# Altium footprint library IntegratedCircuites.PcbLib: 74 footprints (part 3 of 5)
Each footprint in its own frame and in the unit in brackets; x right, y up, seen from the top. Pads: shape width x height; smd on the part's side, far side on the other; paste and mask are expansions set on the pad; w line width, h text height; cw(c..) or ccw(c..) is an arc to the next point about the centre after c.
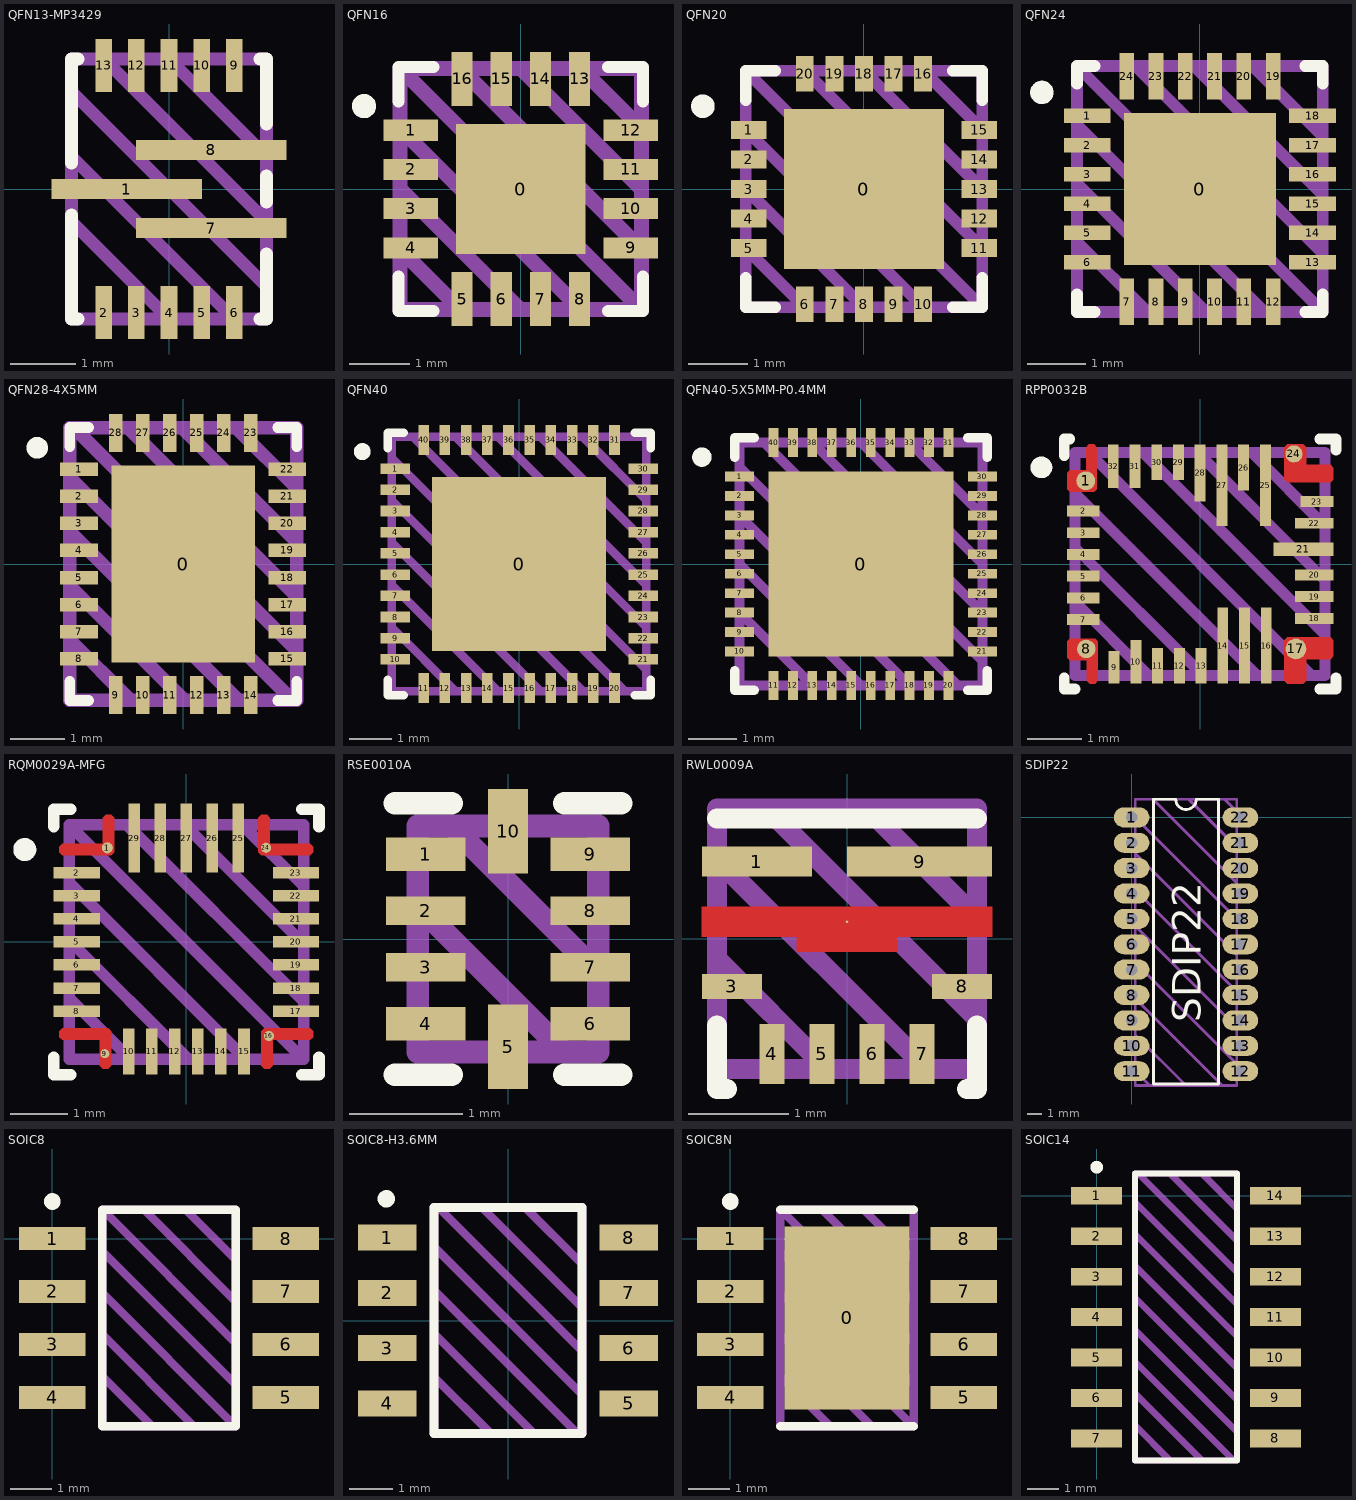
[diagram p2: the footprints below, top view; thin cyan lines are the x and y axes]

## QFN13-MP3429 [mil]
pads (13):
  rect 91x12 smd paste+0: 1(-25.59,0) 7(25.59,-23.62) 8(25.59,23.62)
  rect 10x32 smd paste+0: 2(-39.37,-74.8) 3(-19.68,-74.8) 4(0,-74.8) 5(19.68,-74.8) 6(39.37,-74.8) 9(39.37,74.8) 10(19.68,74.8) 11(0,74.8) 12(-19.68,74.8) 13(-39.37,74.8)
Top Overlay:
  lines w7.87: -59.06,-15.75 -59.06,-78.74 -55.1,-78.74 ; -59.06,15.75 -59.06,78.74 -55.1,78.74 ; 55.12,-78.74 59.06,-78.74 59.06,-39.37 ; 55.12,78.74 59.06,78.74 59.06,39.37 ; 59.06,-7.87 59.06,7.87
Top Draw:
  lines w7.87: -59.06,-19.69 0,-78.74 ; -59.06,19.68 39.37,-78.74 ; -59.06,59.06 59.06,-59.06 ; -39.37,78.74 59.06,-19.68 ; 0,78.74 59.06,19.69 ; -59.06,-78.74 -59.06,78.74 59.06,78.74 59.06,-78.74 -59.06,-78.74
Top Info:
  text "'.Comment'" at -83.63,-121.72 h19.68
3D body "MP3429GL.step": height 33.46, standoff 0, extent -59.06,-78.74 59.06,78.74

## QFN16 [mm]
height 0.8
pads (17):
  rect 2.15x2.15 smd: 0(0,0)
  rect 0.9x0.35 smd: 1(-1.825,0.975) 2(-1.825,0.325) 3(-1.825,-0.325) 4(-1.825,-0.975) 9(1.825,-0.975) 10(1.825,-0.325) 11(1.825,0.325) 12(1.825,0.975)
  rect 0.35x0.9 smd: 5(-0.975,-1.825) 6(-0.325,-1.825) 7(0.325,-1.825) 8(0.975,-1.825) 13(0.975,1.827) 14(0.325,1.827) 15(-0.325,1.827) 16(-0.975,1.827)
Top Overlay:
  circle w0.2: c-2.6,1.375 r0.1
  lines w0.2: -2.025,-1.45 -2.025,-2.025 -1.45,-2.025 ; -2.025,1.45 -2.025,2.025 -1.45,2.025 ; 1.45,-2.025 2.025,-2.025 2.025,-1.45 ; 1.45,2.025 2.025,2.025 2.025,1.45
Top Draw:
  lines w0.25: -2,-1 -1,-2 ; -2,0 0,-2 ; -2,1 1,-2 ; -1,2 2,-1 ; 0,2 2,0 ; 1,2 2,1 ; -2,2 2,-2 ; -2,2 -2,-2 2,-2 ; -2,2 2,2 2,-2
Top Info:
  text "'.Comment'" at -2.124,-3.092 h0.5
3D body "QFN65P400X400X80_HS-17N.step": height 0.8, standoff 0, extent -2.01,-2.01 2.01,2.01

## QFN20 [mm] "QFN, 20-Leads, Body 4,00x4,00mm, Pitch 0,50mm, Thermal Pad 2,70x2,70mm, IPC Medium Density"
height 0.8
pads (21):
  rect 2.7x2.7 smd: 0(0,0)
  rect 0.6x0.3 smd: 1(-1.95,1) 2(-1.95,0.5) 3(-1.95,0) 4(-1.95,-0.5) 5(-1.95,-1) 11(1.95,-1) 12(1.95,-0.5) 13(1.95,0) 14(1.95,0.5) 15(1.95,1)
  rect 0.3x0.6 smd: 6(-1,-1.95) 7(-0.5,-1.95) 8(0,-1.95) 9(0.5,-1.95) 10(1,-1.95) 16(1,1.95) 17(0.5,1.95) 18(0,1.95) 19(-0.5,1.95) 20(-1,1.95)
Top Overlay:
  circle w0.2: c-2.725,1.4 r0.1
  lines w0.2: -2,-1.5 -2,-2 -1.5,-2 ; -2,1.5 -2,2 -1.5,2 ; 1.5,-2 2,-2 2,-1.5 ; 1.5,2 2,2 2,1.5
Top Draw:
  lines w0.2: -2,-1 -1,-2 ; -2,0 0,-2 ; -2,1 1,-2 ; -1,2 2,-1 ; 0,2 2,0 ; 1,2 2,1 ; -2,2 2,-2 ; -2,2 2,2 2,-2 ; -2,2 -2,-2 2,-2
Top Info:
  text "'.Comment'" at -2.549,-3.15 h0.6
3D body "QFN50P400X400X80_HS-21N.step": height 0.8, standoff 0, extent -2.01,-2.01 2.01,2.01

## QFN24 [mm]
height 1
pads (25):
  rect 2.6x2.6 smd: 0(0,0)
  rect 0.8x0.25 smd: 1(-1.925,1.25) 2(-1.925,0.75) 3(-1.925,0.25) 4(-1.925,-0.25) 5(-1.925,-0.75) 6(-1.925,-1.25) 13(1.925,-1.25) 14(1.925,-0.75) 15(1.925,-0.25) 16(1.925,0.25) 17(1.925,0.75) 18(1.925,1.25)
  rect 0.25x0.8 smd: 7(-1.25,-1.925) 8(-0.75,-1.925) 9(-0.25,-1.925) 10(0.25,-1.925) 11(0.75,-1.925) 12(1.25,-1.925) 19(1.25,1.925) 20(0.75,1.925) 21(0.25,1.925) 22(-0.25,1.925) 23(-0.75,1.925) 24(-1.25,1.925)
Top Overlay:
  circle w0.2: c-2.7,1.65 r0.1
  lines w0.2: -2.1,-1.8 -2.1,-2.1 -1.8,-2.1 ; -2.1,1.8 -2.1,2.1 -1.8,2.1 ; 1.8,-2.1 2.1,-2.1 2.1,-1.8 ; 1.8,2.1 2.1,2.1 2.1,1.8
Top Draw:
  lines w0.2: -2.1,-0.9 -0.9,-2.1 ; -2.1,0.1 0.1,-2.1 ; -2.1,1.1 1.1,-2.1 ; -1.1,2.1 2.1,-1.1 ; -0.1,2.1 2.1,-0.1 ; 0.9,2.1 2.1,0.9 ; -2.1,2.1 2.1,-2.1 ; -2.1,2.1 -2.1,-2.1 2.1,-2.1 ; -2.1,2.1 2.1,2.1 2.1,-2.1
Top Info:
  text "'.Comment'" at -2.549,-3.25 h0.6
3D body "QFN50P400X400X80_HS-25N.step": height 0.8, standoff 0, extent -2.085,-2.085 2.085,2.085

## QFN28-4X5MM [mm]
height 0.8
pads (29):
  rect 2.65x3.65 smd: 0(0,0)
  rect 0.7x0.25 smd: 1(-1.925,1.75) 2(-1.925,1.25) 3(-1.925,0.75) 4(-1.925,0.25) 5(-1.925,-0.25) 6(-1.925,-0.75) 7(-1.925,-1.25) 8(-1.925,-1.75) 15(1.925,-1.75) 16(1.925,-1.25) 17(1.925,-0.75) 18(1.925,-0.25) 19(1.925,0.25) 20(1.925,0.75) 21(1.925,1.25) 22(1.925,1.75)
  rect 0.25x0.7 smd: 9(-1.25,-2.425) 10(-0.75,-2.425) 11(-0.25,-2.425) 12(0.25,-2.425) 13(0.75,-2.425) 14(1.25,-2.425) 23(1.25,2.425) 24(0.75,2.425) 25(0.25,2.425) 26(-0.25,2.425) 27(-0.75,2.425) 28(-1.25,2.425)
Top Overlay:
  circle w0.2: c-2.7,2.15 r0.1
  lines w0.2: -2.1,-2.175 -2.1,-2.525 -1.75,-2.525 ; -2.1,2.175 -2.1,2.525 -1.75,2.525 ; 1.75,-2.525 2.1,-2.525 2.1,-2.175 ; 1.75,2.525 2.1,2.525 2.1,2.175
Top Draw:
  lines w0.25: -2.1,-1.4 -0.975,-2.525 ; -2.1,-0.4 0.025,-2.525 ; -2.1,0.6 1.025,-2.525 ; -2.1,1.6 2.025,-2.525 ; -2.025,2.525 2.1,-1.6 ; -1.025,2.525 2.1,-0.6 ; -0.025,2.525 2.1,0.4 ; 0.975,2.525 2.1,1.4 ; -2.1,-2.525 2.1,-2.525 2.1,2.525 -2.1,2.525 -2.1,-2.525
Top Info:
  text "'.Comment'" at -2.124,-3.567 h0.5
3D body "QFN50P400X500X80_HS-29N.step": height 0.8, standoff 0, extent -2.085,-2.51 2.085,2.51

## QFN40 [mm]
height 1
pads (41):
  rect 4.1x4.1 smd: 0(0,0)
  rect 0.7x0.25 smd: 1(-2.925,2.25) 2(-2.925,1.75) 3(-2.925,1.25) 4(-2.925,0.75) 5(-2.925,0.25) 6(-2.925,-0.25) 7(-2.925,-0.75) 8(-2.925,-1.25) 9(-2.925,-1.75) 10(-2.925,-2.25) 21(2.925,-2.25) 22(2.925,-1.75) 23(2.925,-1.25) 24(2.925,-0.75) 25(2.925,-0.25) 26(2.925,0.25) 27(2.925,0.75) 28(2.925,1.25) 29(2.925,1.75) 30(2.925,2.25)
  rect 0.25x0.7 smd: 11(-2.25,-2.925) 12(-1.75,-2.925) 13(-1.25,-2.925) 14(-0.75,-2.925) 15(-0.25,-2.925) 16(0.25,-2.925) 17(0.75,-2.925) 18(1.25,-2.925) 19(1.75,-2.925) 20(2.25,-2.925) 31(2.25,2.925) 32(1.75,2.925) 33(1.25,2.925) 34(0.75,2.925) 35(0.25,2.925) 36(-0.25,2.925) 37(-0.75,2.925) 38(-1.25,2.925) 39(-1.75,2.925) 40(-2.25,2.925)
Top Overlay:
  circle w0.2: c-3.7,2.65 r0.1
  lines w0.2: -3.1,-2.725 -3.1,-3.1 -2.725,-3.1 ; -3.1,2.725 -3.1,3.1 -2.725,3.1 ; 2.725,-3.1 3.1,-3.1 3.1,-2.725 ; 2.725,3.1 3.1,3.1 3.1,2.725
Top Draw:
  lines w0.2: -3,-1.5 -1.5,-3 ; -3,-0.5 -0.5,-3 ; -3,0.5 0.5,-3 ; -3,1.5 1.5,-3 ; -3,2.5 2.5,-3 ; -2.5,3 3,-2.5 ; -1.5,3 3,-1.5 ; -0.5,3 3,-0.5 ; 0.5,3 3,0.5 ; 1.5,3 3,1.5 ; -3,-3 3,-3 3,3 -3,3 -3,-3
Top Info:
  text "'.Comment'" at -3.186,-4.437 h0.75
3D body "QFN50P600X600X100_HS-41N.step": height 1, standoff 0, extent -3.01,-3.01 3.01,3.01

## QFN40-5X5MM-P0.4MM [mm]
height 0.8
pads (41):
  rect 3.8x3.8 smd: 0(0,0)
  rect 0.6x0.2 smd: 1(-2.5,1.8) 2(-2.5,1.4) 3(-2.5,1) 4(-2.5,0.6) 5(-2.5,0.2) 6(-2.5,-0.2) 7(-2.5,-0.6) 8(-2.5,-1) 9(-2.5,-1.4) 10(-2.5,-1.8) 21(2.5,-1.8) 22(2.5,-1.4) 23(2.5,-1) 24(2.5,-0.6) 25(2.5,-0.2) 26(2.5,0.2) 27(2.5,0.6) 28(2.5,1) 29(2.5,1.4) 30(2.5,1.8)
  rect 0.2x0.6 smd: 11(-1.8,-2.5) 12(-1.4,-2.5) 13(-1,-2.5) 14(-0.6,-2.5) 15(-0.2,-2.5) 16(0.2,-2.5) 17(0.6,-2.5) 18(1,-2.5) 19(1.4,-2.5) 20(1.8,-2.5) 31(1.8,2.5) 32(1.4,2.5) 33(1,2.5) 34(0.6,2.5) 35(0.2,2.5) 36(-0.2,2.5) 37(-0.6,2.5) 38(-1,2.5) 39(-1.4,2.5) 40(-1.8,2.5)
Top Overlay:
  circle w0.2: c-3.275,2.2 r0.1
  lines w0.2: -2.6,-2.2 -2.6,-2.6 -2.2,-2.6 ; -2.6,2.2 -2.6,2.6 -2.2,2.6 ; 2.2,-2.6 2.6,-2.6 2.6,-2.2 ; 2.2,2.6 2.6,2.6 2.6,2.2
Top Draw:
  lines w0.2: -2.5,-1 -1,-2.5 ; -2.5,0 0,-2.5 ; -2.5,1 1,-2.5 ; -2.5,2 2,-2.5 ; -2,2.5 2.5,-2 ; -1,2.5 2.5,-1 ; 0,2.5 2.5,0 ; 1,2.5 2.5,1 ; -2.5,-2.5 -2.5,2.5 2.5,2.5 2.5,-2.5 -2.5,-2.5
Top Info:
  text "'.Comment'" at -3.186,-3.937 h0.75
3D body "QFN40P500X500X80_HS-41N.step": height 0.8, standoff 0, extent -2.51,-2.51 2.51,2.51

## RPP0032B [mm]
pads (32):
  round 0.349 smd paste-0.162: 1(-2.106,1.532)
  rect 0.6x0.2 smd paste+0: 2(-2.15,0.976) 3(-2.15,0.576) 4(-2.15,0.176) 5(-2.15,-0.224) 6(-2.15,-0.624) 7(-2.15,-1.024) 23(2.15,1.15)
  round 0.339 smd paste-0.157: 8(-2.096,-1.562)
  rect 0.2x0.6 smd paste+0: 9(-1.583,-1.9)
  rect 0.2x0.8 smd paste+0: 10(-1.183,-1.8) 31(-1.2,1.8) 32(-1.6,1.8)
  rect 0.2x0.65 smd paste+0: 11(-0.783,-1.875) 12(-0.383,-1.875) 13(0.017,-1.875) 29(-0.4,1.875) 30(-0.8,1.875)
  rect 0.2x1.4 smd paste+0: 14(0.417,-1.5) 15(0.817,-1.5) 16(1.217,-1.5)
  round 0.383 smd paste-0.179: 17(1.763,-1.562)
  rect 0.7x0.2 smd paste+0: 18(2.1,-1) 19(2.1,-0.6) 20(2.1,-0.2) 22(2.1,0.75)
  rect 1.1x0.25 smd paste+0: 21(1.9,0.275)
  round 0.315 smd paste-0.145: 24(1.725,2.025)
  rect 0.2x1.5 smd paste+0: 25(1.2,1.45) 27(0.4,1.45)
  rect 0.2x0.85 smd paste+0: 26(0.8,1.775)
  rect 0.2x1.05 smd paste+0: 28(0,1.675)
Top Layer:
  region: -1.9,1.376 -1.9,2.15 -1.95,2.2 -2.05,2.2 -2.1,2.15 -2.1,1.726 -2.4,1.726 -2.45,1.676 -2.45,1.376 -2.4,1.326 -1.95,1.326
  region: -1.883,-1.424 -1.883,-2.15 -1.933,-2.2 -2.033,-2.2 -2.083,-2.15 -2.083,-1.774 -2.4,-1.774 -2.45,-1.724 -2.45,-1.424 -2.4,-1.374 -1.933,-1.374
  region: 1.55,-1.4 1.55,-2.15 1.6,-2.2 1.9,-2.2 1.95,-2.15 1.95,-1.75 2.4,-1.75 2.45,-1.7 2.45,-1.4 2.4,-1.35 1.6,-1.35
  region: 1.55,1.55 1.55,2.15 1.6,2.2 1.9,2.2 1.95,2.15 1.95,1.825 2.4,1.825 2.45,1.775 2.45,1.55 2.4,1.5 1.6,1.5
Top Overlay:
  circle w0.2: c-2.921,1.778 r0.1
  lines w0.2: -2.5,-2.1 -2.5,-2.3 -2.3,-2.3 ; -2.5,2 -2.5,2.3 -2.4,2.3 ; 2.2,-2.3 2.5,-2.3 2.5,-2.1 ; 2.2,2.3 2.5,2.3 2.5,2.1
Top Draw:
  lines w0.2: -2.3,-0.7 -0.95,-2.05 ; -2.3,0.3 0.05,-2.05 ; -2.3,1.3 1.05,-2.05 ; -2.05,2.05 2.05,-2.05 ; -1.05,2.05 2.3,-1.3 ; -0.05,2.05 2.3,-0.3 ; 0.95,2.05 2.3,0.7 ; -2.3,-2.05 2.3,-2.05 2.3,2.05 -2.3,2.05 -2.3,-2.05
Top Info:
  text "'.Comment'" at -2.124,-3.086 h0.5
3D body "RPP0032B.stp": height 1, standoff 0, extent -2.25,-2 2.25,2

## RQM0029A-MFG [mm]
pads (29):
  round 0.192 smd paste+0: 1(-1.369,1.631)
  rect 0.8x0.2 smd: 2(-1.9,1.2) 3(-1.9,0.8) 4(-1.9,0.4) 5(-1.9,0) 6(-1.9,-0.4) 7(-1.9,-0.8) 8(-1.9,-1.2) 17(1.9,-1.2) 18(1.9,-0.8) 19(1.9,-0.4) 20(1.9,0) 21(1.9,0.4) 22(1.9,0.8) 23(1.9,1.2)
  round 0.158 smd paste+0: 9(-1.412,-1.937)
  rect 0.2x0.8 smd: 10(-1,-1.9) 11(-0.6,-1.9) 12(-0.2,-1.9) 13(0.2,-1.9) 14(0.6,-1.9) 15(1,-1.9)
  round 0.175 smd paste+0: 16(1.431,-1.631) 24(1.381,1.631)
  rect 0.2x1.2 smd: 25(0.9,1.8) 26(0.45,1.8) 27(0,1.8) 28(-0.45,1.8) 29(-0.9,1.8)
Top Layer:
  region: 2.2,-1.55 2.2,-1.65 2.15,-1.7 1.5,-1.7 1.5,-2.15 1.45,-2.2 1.35,-2.2 1.3,-2.15 1.3,-1.55 1.35,-1.5 2.15,-1.5
  region: -2.2,-1.55 -2.2,-1.65 -2.15,-1.7 -1.5,-1.7 -1.5,-2.15 -1.45,-2.2 -1.35,-2.2 -1.3,-2.15 -1.3,-1.55 -1.35,-1.5 -2.15,-1.5
  region: -2.2,1.55 -2.2,1.65 -2.15,1.7 -1.45,1.7 -1.45,2.15 -1.4,2.2 -1.3,2.2 -1.25,2.15 -1.25,1.55 -1.3,1.5 -2.15,1.5
  region: 2.2,1.55 2.2,1.65 2.15,1.7 1.45,1.7 1.45,2.15 1.4,2.2 1.3,2.2 1.25,2.15 1.25,1.55 1.3,1.5 2.15,1.5
Top Overlay:
  circle w0.2: c-2.8,1.6 r0.1
  lines w0.2: -2.3,-2 -2.3,-2.3 -2,-2.3 ; -2.3,2 -2.3,2.3 -2,2.3 ; 2,-2.3 2.3,-2.3 2.3,-2 ; 2,2.3 2.3,2.3 2.3,2
Top Paste:
  region: 2.15,1.7 2.2,1.65 2.2,1.55 2.15,1.5 1.3,1.5 1.25,1.55 1.25,2.15 1.3,2.2 1.4,2.2 1.45,2.15 1.45,1.7
  region: 2.2,-1.55 2.2,-1.65 2.15,-1.7 1.5,-1.7 1.5,-2.15 1.45,-2.2 1.35,-2.2 1.3,-2.15 1.3,-1.55 1.35,-1.5 2.15,-1.5
  region: -2.15,-1.7 -2.2,-1.65 -2.2,-1.55 -2.15,-1.5 -1.35,-1.5 -1.3,-1.55 -1.3,-2.15 -1.35,-2.2 -1.45,-2.2 -1.5,-2.15 -1.5,-1.7
  region: -2.2,1.55 -2.2,1.65 -2.15,1.7 -1.45,1.7 -1.45,2.15 -1.4,2.2 -1.3,2.2 -1.25,2.15 -1.25,1.55 -1.3,1.5 -2.15,1.5
Top Solder:
  region: 2.15,1.7 2.2,1.65 2.2,1.55 2.15,1.5 1.3,1.5 1.25,1.55 1.25,2.15 1.3,2.2 1.4,2.2 1.45,2.15 1.45,1.7
  region: 2.2,-1.55 2.2,-1.65 2.15,-1.7 1.5,-1.7 1.5,-2.15 1.45,-2.2 1.35,-2.2 1.3,-2.15 1.3,-1.55 1.35,-1.5 2.15,-1.5
  region: -2.15,-1.7 -2.2,-1.65 -2.2,-1.55 -2.15,-1.5 -1.35,-1.5 -1.3,-1.55 -1.3,-2.15 -1.35,-2.2 -1.45,-2.2 -1.5,-2.15 -1.5,-1.7
  region: -2.2,1.55 -2.2,1.65 -2.15,1.7 -1.45,1.7 -1.45,2.15 -1.4,2.2 -1.3,2.2 -1.25,2.15 -1.25,1.55 -1.3,1.5 -2.15,1.5
Top Draw:
  lines w0.2: -2.032,-0.968 -0.968,-2.032 ; -2.032,0.032 0.032,-2.032 ; -2.032,1.032 1.032,-2.032 ; -1.032,2.032 2.032,-1.032 ; -0.032,2.032 2.032,-0.032 ; 0.968,2.032 2.032,0.968 ; -2.032,2.032 -2.032,-2.032 2.032,-2.032 ; -2.032,2.032 2.032,2.032 2.032,-2.032 ; -2.032,2.032 2.032,-2.032
Top Info:
  text "'.Comment'" at -2.549,-3.25 h0.6
3D body "RQM0029A.stp": height 1, standoff 0, extent -2,-2 2,2

## RSE0010A [mm]
pads (10):
  rect 0.705x0.3 smd: 1(-0.727,0.75) 4(-0.727,-0.75) 6(0.727,-0.75) 9(0.727,0.75)
  rect 0.705x0.25 smd: 2(-0.727,0.25) 3(-0.727,-0.25) 7(0.727,-0.25) 8(0.727,0.25)
  rect 0.35x0.75 smd: 5(0,-0.952) 10(0,0.952)
Top Overlay:
  lines w0.2: -1,-1.2 -0.5,-1.2 ; -1,1.2 -0.5,1.2 ; 0.5,-1.2 1,-1.2 ; 0.5,1.2 1,1.2
Top Draw:
  lines w0.2: -0.8,0.3 0.5,-1 ; -0.5,1 0.8,-0.3 ; -0.8,-1 -0.8,1 0.8,1 0.8,-1 -0.8,-1
Top Info:
  text "'.Comment'" at -2.124,-2.092 h0.5
3D body "RSE0010A.stp": height 0.6, standoff 0, extent -0.75,-1 0.75,1

## RWL0009A [mm]
pads (9):
  rect 1.1x0.3 smd: 1(-0.9,0.77)
  round 0.025 smd: 2(0,0.17)
  rect 0.6x0.25 smd: 3(-1.15,-0.475) 8(1.15,-0.475)
  rect 0.25x0.6 smd: 4(-0.75,-1.15) 5(-0.25,-1.15) 6(0.25,-1.15) 7(0.75,-1.15)
  rect 1.45x0.3 smd: 9(0.725,0.77)
Top Layer:
  region: -1.45,0.02 -0.5,0.02 -0.5,-0.13 0.5,-0.13 0.5,0.02 1.45,0.02 1.45,0.32 -1.45,0.32
Top Overlay:
  lines w0.2: -1.3,-0.865 -1.3,-1.5 -1.2,-1.5 ; -1.3,1.2 1.3,1.2 ; 1.2,-1.5 1.3,-1.5 1.3,-0.865
Top Draw:
  lines w0.2: -1.3,-0.2 -0.2,-1.3 ; -1.3,0.8 0.8,-1.3 ; -0.8,1.3 1.3,-0.8 ; 0.2,1.3 1.3,0.2 ; -1.3,-1.3 -1.3,1.3 1.3,1.3 1.3,-1.3 -1.3,-1.3
Top Info:
  text "'.Comment'" at -1.487,-2.104 h0.35
3D body "RWL0009A.stp": height 1, standoff 0, extent -1.25,-1.25 1.25,1.25

## SDIP22 [mm]
pads (22):
  oval 2.5x1.4 hole 0.8: 1(0,0) 2(0,-1.778) 3(0,-3.556) 4(0,-5.334) 5(0,-7.112) 6(0,-8.89) 7(0,-10.668) 8(0,-12.446) 9(0,-14.224) 10(0,-16.002) 11(0,-17.78) 12(7.62,-17.78) 13(7.62,-16.002) 14(7.62,-14.224) 15(7.62,-12.446) 16(7.62,-10.668) 17(7.62,-8.89) 18(7.62,-7.112) 19(7.62,-5.334) 20(7.62,-3.556) 21(7.62,-1.778) 22(7.62,0)
Top Overlay:
  lines w0.2: 3.048,1.27 1.524,1.27 1.524,-18.669 6.096,-18.669 6.096,1.27 4.572,1.27 ; 3.092,1.27 ccw(c3.81,1.27) 4.528,1.27
  text "SDIP22" at 4.826,-14.351 h2
Top Draw:
  lines w0.2: 0.254,-17.78 1.27,-18.796 2.54,-18.796 ; 0.254,-15.24 3.81,-18.796 7.366,-18.796 ; 0.254,-12.7 6.35,-18.796 7.366,-18.796 ; 0.254,-10.16 7.366,-17.272 ; 0.254,-7.62 7.366,-14.732 ; 0.254,-5.08 7.366,-12.192 7.366,-14.732 ; 0.254,-2.54 7.366,-9.652 7.366,-14.732 ; 0.254,0 7.366,-7.112 7.366,-10.16 ; 1.5,1.27 7.366,-4.596 7.366,-6.5 ; 4,1.27 7.366,-2.096 7.366,-4 ; 6.5,1.27 7.366,0.404 7.366,-0.5 ; 7.366,-18.796 7.366,-17.272 ; 7.366,-18.796 7.366,1.27 0.254,1.27 0.254,-18.796 7.366,-18.796 ; 7.366,-17.272 7.366,-14.732
Top Info:
  text "'.Comment'" at -0.381,-20.32 h1
3D body: height 2.09, standoff 0.31, extent 7.112,-2.278 7.747,-1.278
3D body: height 0.38, standoff -3, extent 7.493,-2.032 7.747,-1.524
3D body: height 2.09, standoff 0.31, extent 7.112,-0.5 7.747,0.5
3D body: height 0.38, standoff -3, extent 7.493,-0.254 7.747,0.254
3D body: height 2.09, standoff 0.31, extent 7.112,-4.056 7.747,-3.056
3D body: height 0.38, standoff -3, extent 7.493,-3.81 7.747,-3.302
3D body: height 2.09, standoff 0.31, extent 7.112,-7.612 7.747,-6.612
3D body: height 0.38, standoff -3, extent 7.493,-7.366 7.747,-6.858
3D body: height 2.09, standoff 0.31, extent 7.112,-5.834 7.747,-4.834
3D body: height 0.38, standoff -3, extent 7.493,-5.588 7.747,-5.08
3D body: height 2.09, standoff 0.31, extent 7.112,-9.39 7.747,-8.39
3D body: height 0.38, standoff -3, extent 7.493,-9.144 7.747,-8.636
3D body: height 2.09, standoff 0.31, extent 7.112,-12.946 7.747,-11.946
3D body: height 0.38, standoff -3, extent 7.493,-12.7 7.747,-12.192
3D body: height 2.09, standoff 0.31, extent 7.112,-11.168 7.747,-10.168
3D body: height 0.38, standoff -3, extent 7.493,-10.922 7.747,-10.414
3D body: height 2.09, standoff 0.31, extent 7.112,-14.724 7.747,-13.724
3D body: height 0.38, standoff -3, extent 7.493,-14.478 7.747,-13.97
3D body: height 2.09, standoff 0.31, extent 7.112,-18.28 7.747,-17.28
3D body: height 0.38, standoff -3, extent 7.493,-18.034 7.747,-17.526
3D body: height 2.09, standoff 0.31, extent 7.112,-16.502 7.747,-15.502
3D body: height 0.38, standoff -3, extent 7.493,-16.256 7.747,-15.748
3D body: height 2.09, standoff 0.31, extent -0.127,-16.502 0.508,-15.502
3D body: height 0.38, standoff -3, extent -0.127,-16.256 0.127,-15.748
3D body: height 2.09, standoff 0.31, extent -0.127,-18.28 0.508,-17.28
3D body: height 0.38, standoff -3, extent -0.127,-18.034 0.127,-17.526
3D body: height 2.09, standoff 0.31, extent -0.127,-14.724 0.508,-13.724
3D body: height 0.38, standoff -3, extent -0.127,-14.478 0.127,-13.97
3D body: height 2.09, standoff 0.31, extent -0.127,-11.168 0.508,-10.168
3D body: height 0.38, standoff -3, extent -0.127,-10.922 0.127,-10.414
3D body: height 2.09, standoff 0.31, extent -0.127,-12.946 0.508,-11.946
3D body: height 0.38, standoff -3, extent -0.127,-12.7 0.127,-12.192
3D body: height 2.09, standoff 0.31, extent -0.127,-9.39 0.508,-8.39
3D body: height 0.38, standoff -3, extent -0.127,-9.144 0.127,-8.636
3D body: height 2.09, standoff 0.31, extent -0.127,-5.834 0.508,-4.834
3D body: height 0.38, standoff -3, extent -0.127,-5.588 0.127,-5.08
3D body: height 2.09, standoff 0.31, extent -0.127,-7.612 0.508,-6.612
3D body: height 0.38, standoff -3, extent -0.127,-7.366 0.127,-6.858
3D body: height 2.09, standoff 0.31, extent -0.127,-4.056 0.508,-3.056
3D body: height 0.38, standoff -3, extent -0.127,-3.81 0.127,-3.302
3D body: height 2.09, standoff 0.31, extent -0.127,-0.5 0.508,0.5
3D body: height 0.38, standoff -3, extent -0.127,-0.254 0.127,0.254
3D body: height 2.09, standoff 0.31, extent -0.127,-2.278 0.508,-1.278
3D body: height 0.38, standoff -3, extent -0.127,-2.032 0.127,-1.524
3D body: height 3, standoff 2, extent 0.508,-18.542 7.112,1.016
3D body: height 2.03, standoff 0.25, extent 0.508,-18.542 7.112,1.016

## SOIC8 [mm] "Small Outline Integrated Circuit"
pads (8):
  rect 1.6x0.55 smd: 1(0,0) 2(0,-1.27) 3(0,-2.54) 4(0,-3.81) 5(5.6,-3.81) 6(5.6,-2.54) 7(5.6,-1.27) 8(5.6,0)
Top Overlay:
  circle w0.2: c0,0.889 r0.1
  lines w0.2: 1.2,-4.505 1.2,0.695 4.4,0.695 4.4,-4.505 1.2,-4.505
Top Draw:
  lines w0.2: 1.2,-3.305 2.4,-4.505 ; 1.2,-2.305 3.4,-4.505 ; 1.2,-1.305 4.4,-4.505 ; 1.2,-0.305 4.4,-3.505 ; 2.2,0.695 4.4,-1.505 ; 3.2,0.695 4.4,-0.505 ; 4.4,-2.505 1.2,0.695 ; 1.2,0.695 4.4,0.695 4.4,-4.505 ; 1.2,0.695 1.2,-4.505 4.4,-4.505
Top Info:
  text "'.Comment'" at -1.449,-5.988 h1
3D body "SOIC127P600-8N.step": height 1.5, standoff 0, extent -0.2,-4.505 5.8,0.695

## SOIC8-H3.6MM [mm]
height 3.65
pads (8):
  rect 1.35x0.6 smd: 1(-2.775,1.905) 2(-2.775,0.635) 3(-2.775,-0.635) 4(-2.775,-1.905) 5(2.775,-1.905) 6(2.775,-0.635) 7(2.775,0.635) 8(2.775,1.905)
Top Overlay:
  circle w0.2: c-2.8,2.8 r0.1
  lines w0.2: -1.7,-2.6 1.7,-2.6 1.7,2.6 -1.7,2.6 -1.7,-2.6
Top Draw:
  lines w0.2: -1.7,-1.3 -0.4,-2.6 ; -1.7,-0.3 0.6,-2.6 ; -1.7,0.7 1.6,-2.6 ; -1.7,1.7 1.7,-1.7 ; -1.6,2.6 1.7,-0.7 ; -0.6,2.6 1.7,0.3 ; 0.4,2.6 1.7,1.3 ; -1.7,-2.6 1.7,-2.6 1.7,2.6 -1.7,2.6 -1.7,-2.6
Top Info:
  text "'.Comment'" at -4.249,-4.083 h1
3D body "SOIC127P600X365-8N.step": height 3.65, standoff 0, extent -2.975,-2.55 2.975,2.55

## SOIC8N [mm] "Small Outline Integrated Circuit"
pads (9):
  rect 3x4.4 smd: 0(2.8,-1.905)
  rect 1.6x0.55 smd: 1(0,0) 2(0,-1.27) 3(0,-2.54) 4(0,-3.81) 5(5.6,-3.81) 6(5.6,-2.54) 7(5.6,-1.27) 8(5.6,0)
Top Overlay:
  circle w0.2: c0,0.889 r0.1
  lines w0.2: 1.2,-4.505 4.4,-4.505 ; 1.2,0.695 4.4,0.695
Top Draw:
  lines w0.2: 1.2,-3.305 2.4,-4.505 ; 1.2,-2.305 3.4,-4.505 ; 1.2,-1.305 4.4,-4.505 ; 1.2,-0.305 4.4,-3.505 ; 2.2,0.695 4.4,-1.505 ; 3.2,0.695 4.4,-0.505 ; 4.4,-2.505 1.2,0.695 ; 1.2,0.695 4.4,0.695 4.4,-4.505 ; 1.2,0.695 1.2,-4.505 4.4,-4.505
Top Info:
  text "'.Comment'" at -1.449,-5.988 h1
3D body "SOIC127P600-8N2222.step": height 1.4, standoff 0, extent -0.2,-4.505 5.8,0.695

## SOIC14 [mm] "Small Outline Integrated Circuit"
pads (14):
  rect 1.6x0.55 smd: 1(0,0) 2(0,-1.27) 3(0,-2.54) 4(0,-3.81) 5(0,-5.08) 6(0,-6.35) 7(0,-7.62) 8(5.6,-7.62) 9(5.6,-6.35) 10(5.6,-5.08) 11(5.6,-3.81) 12(5.6,-2.54) 13(5.6,-1.27) 14(5.6,0)
Top Overlay:
  circle w0.2: c0,0.889 r0.1
  lines w0.2: 1.2,-8.31 1.2,0.69 4.4,0.69 4.4,-8.31 1.2,-8.31
Top Draw:
  lines w0.2: 1.2,-7.21 2.3,-8.31 ; 1.2,-6.21 3.3,-8.31 ; 1.2,-5.21 4.3,-8.31 ; 1.2,-4.21 4.4,-7.41 ; 1.2,-3.21 4.4,-6.41 ; 1.2,-2.21 4.4,-5.41 ; 1.2,-1.21 4.4,-4.41 ; 1.2,-0.21 4.4,-3.41 ; 1.3,0.69 4.4,-2.41 ; 2.3,0.69 4.4,-1.41 ; 3.3,0.69 4.4,-0.41 ; 1.2,-8.31 1.2,0.69 4.4,0.69 4.4,-8.31 1.2,-8.31
Top Info:
  text "'.Comment'" at -1.449,-9.793 h1
3D body "SOIC127P600-8N.step": height 1.5, standoff 0, extent -0.2,-8.31 5.8,0.69